# EAGLE library part 5034800600 (library 5034800600 FPC Connector)
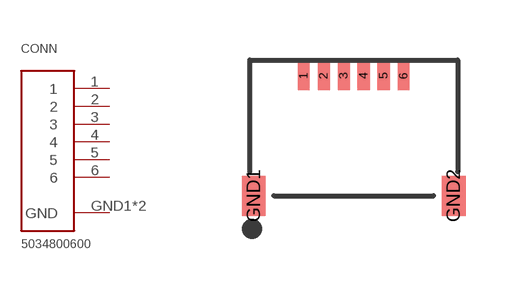
[diagram p0: symbol with the pads of SMT; footprint SMT]

Designator prefix CONN

## 5034800600  [SMT]
1  1
2  2
3  3
4  4
5  5
6  6
GND1  GND
GND2  GND

## Footprint SMT (pad centres in mm)
smd 0.3 x 0.7: 1 -1.25,1.27; 2 -0.75,1.27; 3 -0.25,1.27; 4 0.25,1.27; 5 0.75,1.27; 6 1.25,1.27
smd 0.6 x 1: GND1 -2.5,-1.73; GND2 2.5,-1.73